# EAGLE library part IV-CC3200MOD (library IV-CC3200MOD)
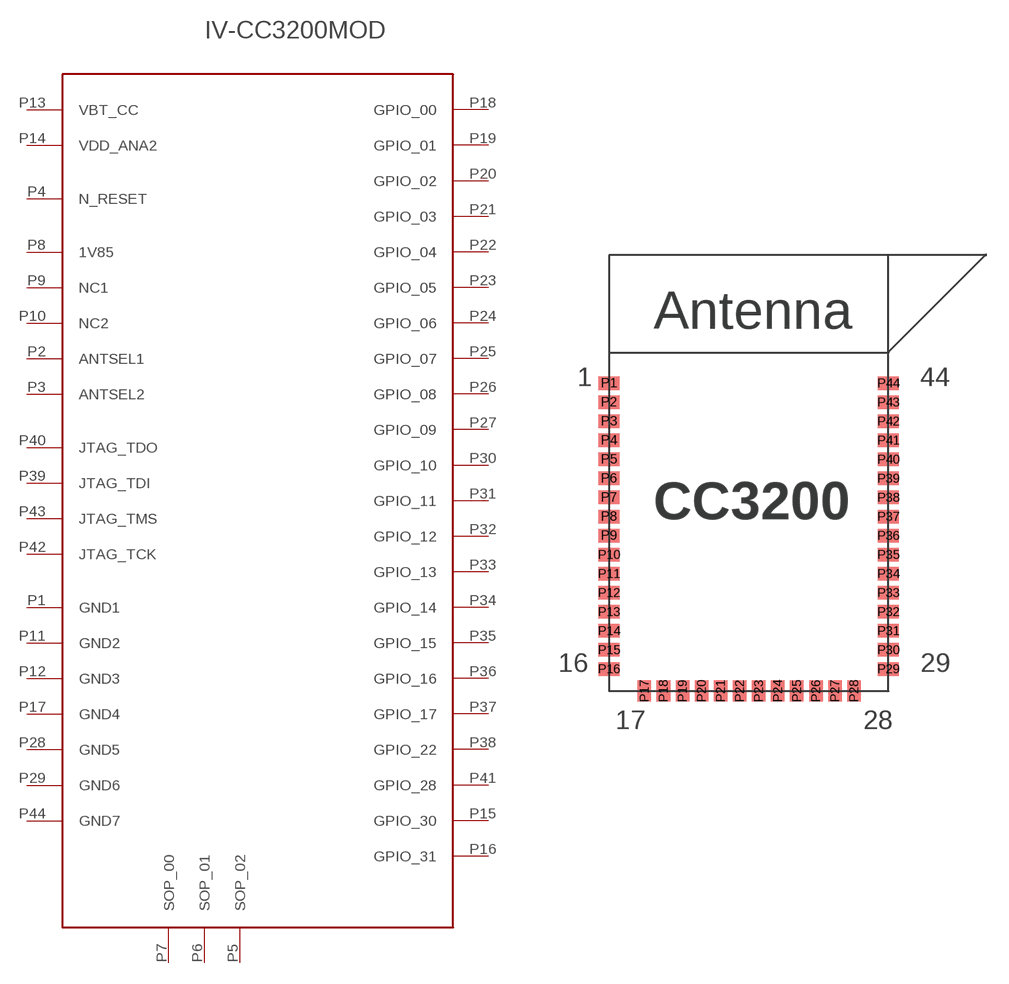
[diagram p0: symbol with the pads of CC3200; footprint CC3200]

Designator prefix -

## IV-CC3200MOD  [CC3200]
P1  GND1
P2  ANTSEL1
P3  ANTSEL2
P4  N_RESET
P5  SOP_02
P6  SOP_01
P7  SOP_00
P8  1V85
P9  NC1
P10  NC2
P11  GND2
P12  GND3
P13  VBT_CC
P14  VDD_ANA2
P15  GPIO_30
P16  GPIO_31
P17  GND4
P18  GPIO_00
P19  GPIO_01
P20  GPIO_02
P21  GPIO_03
P22  GPIO_04
P23  GPIO_05
P24  GPIO_06
P25  GPIO_07
P26  GPIO_08
P27  GPIO_09
P28  GND5
P29  GND6
P30  GPIO_10
P31  GPIO_11
P32  GPIO_12
P33  GPIO_13
P34  GPIO_14
P35  GPIO_15
P36  GPIO_16
P37  GPIO_17
P38  GPIO_22
P39  JTAG_TDI
P40  JTAG_TDO
P41  GPIO_28
P42  JTAG_TCK
P43  JTAG_TMS
P44  GND7

## Footprint CC3200 (pad centres in mm)
smd 1.4 x 0.9: P1 -9.31,20.52; P2 -9.31,19.25; P3 -9.31,17.98; P4 -9.31,16.71; P5 -9.31,15.44; P6 -9.31,14.17; P7 -9.31,12.9; P8 -9.31,11.63; P9 -9.31,10.36; P10 -9.31,9.09; P11 -9.31,7.82; P12 -9.31,6.55; P13 -9.31,5.28; P14 -9.31,4.01; P15 -9.31,2.74; P16 -9.31,1.47; P29 9.31,1.47; P30 9.31,2.74; P31 9.31,4.01; P32 9.31,5.28; P33 9.31,6.55; P34 9.31,7.82; P35 9.31,9.09; P36 9.31,10.36; P37 9.31,11.63; P38 9.31,12.9; P39 9.31,14.17; P40 9.31,15.44; P41 9.31,16.71; P42 9.31,17.98; P43 9.31,19.25; P44 9.31,20.52
smd 0.9 x 1.4: P17 -6.96,0; P18 -5.69,0; P19 -4.42,0; P20 -3.15,0; P21 -1.88,0; P22 -0.61,0; P23 0.66,0; P24 1.93,0; P25 3.2,0; P26 4.47,0; P27 5.74,0; P28 7.01,0